# EAGLE library part ATMEGA8_PDIP28 (library Atmel_Prototype_Header)
ATMEL 8-bit AVR Microcontroller with 8K Bytes In-System Programmable Flash.
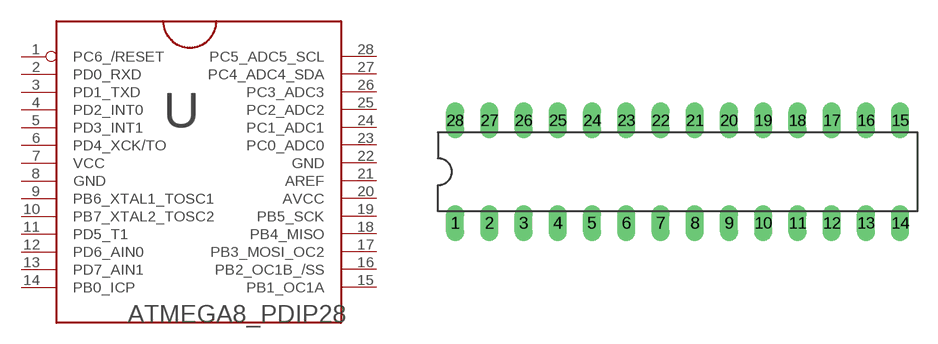
[diagram p4: symbol with the pads of DIL-28-3; footprint DIL-28-3]

Designator prefix U

## ATMEGA8_PDIP28_PDIP  [DIL-28-3]
1  PC6_/RESET
2  PD0_RXD
3  PD1_TXD
4  PD2_INT0
5  PD3_INT1
6  PD4_XCK/TO
7  VCC  pwr
8  GND  pwr
9  PB6_XTAL1_TOSC1
10  PB7_XTAL2_TOSC2
11  PD5_T1
12  PD6_AIN0
13  PD7_AIN1
14  PB0_ICP
15  PB1_OC1A
16  PB2_OC1B_/SS
17  PB3_MOSI_OC2
18  PB4_MISO
19  PB5_SCK
20  AVCC  pwr
21  AREF  pwr
22  GND  pwr
23  PC0_ADC0
24  PC1_ADC1
25  PC2_ADC2
26  PC3_ADC3
27  PC4_ADC4_SDA
28  PC5_ADC5_SCL

## Footprint DIL-28-3 (pad centres in mm)
drill 0.813 pad 1.321 long: 1 -16.51,-3.81; 2 -13.97,-3.81; 3 -11.43,-3.81; 4 -8.89,-3.81; 5 -6.35,-3.81; 6 -3.81,-3.81; 7 -1.27,-3.81; 8 1.27,-3.81; 9 3.81,-3.81; 10 6.35,-3.81; 11 8.89,-3.81; 12 11.43,-3.81; 13 13.97,-3.81; 14 16.51,-3.81; 15 16.51,3.81; 16 13.97,3.81; 17 11.43,3.81; 18 8.89,3.81; 19 6.35,3.81; 20 3.81,3.81; 21 1.27,3.81; 22 -1.27,3.81; 23 -3.81,3.81; 24 -6.35,3.81; 25 -8.89,3.81; 26 -11.43,3.81; 27 -13.97,3.81; 28 -16.51,3.81